# Altium footprint library RESC_0402[01005]_M.PcbLib: 1 footprints
Each footprint in its own frame and in the unit in brackets; x right, y up, seen from the top. Pads: shape width x height; smd on the part's side, far side on the other; paste and mask are expansions set on the pad; w line width, h text height; cw(c..) or ccw(c..) is an arc to the next point about the centre after c.
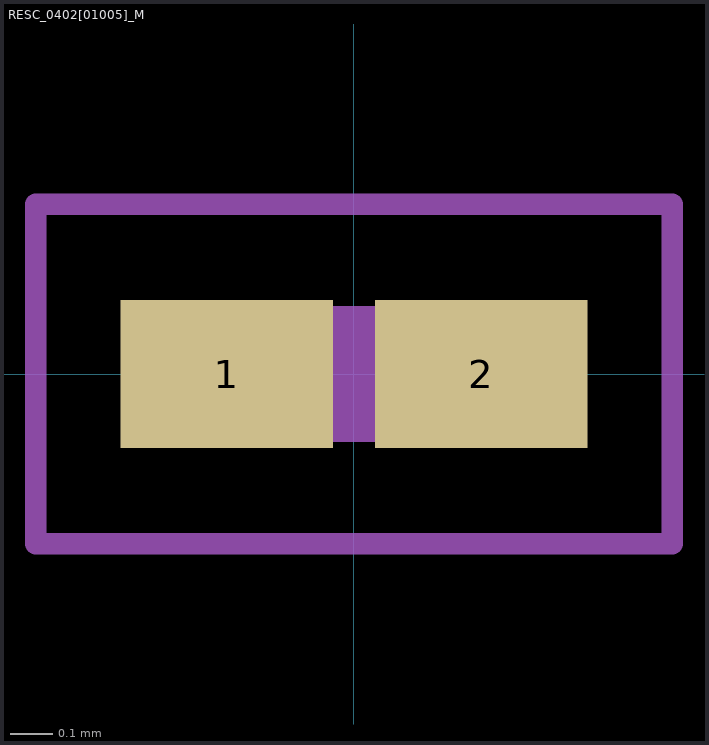
[diagram p0: the footprint, top view; thin cyan lines are the x and y axes]

## RESC_0402[01005]_M [mm] "Resistor EIA 01005"
height 0.15
pads (2):
  rect 0.5x0.35 smd: 1(-0.3,0) 2(0.3,0)
Mechanical 13:
  lines w0.1: -0.21,-0.11 0.21,-0.11 0.21,0.11 -0.21,0.11 -0.21,-0.11
Mechanical 15:
  lines w0.05: -0.75,-0.4 0.75,-0.4 0.75,0.4 -0.75,0.4 -0.75,-0.4
  lines w0.1: -0.11,0 0.11,0 ; 0,-0.11 0,0.11
3D body: height 0.15, standoff 0, extent 0.11,-0.11 0.21,0.11
3D body: height 0.15, standoff 0, extent -0.21,-0.11 -0.11,0.11
3D body: height 0.15, standoff 0, extent -0.11,-0.11 0.11,0.11